# Altium schematic symbol library tin_bridge.SchLib: 1 symbol
Pins are listed as number, name and electrical type; pins without a type are passive.

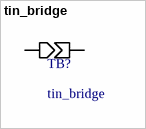
[diagram p0: symbol tin_bridge]

## tin_bridge
designator TB?
footprint tin_bridge
pins: 21, 22